# Altium integrated library INA240A1D.IntLib: 1 symbol
Pins are listed as number, name and electrical type; pins without a type are passive.

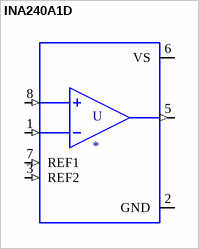
[diagram p0: symbol INA240A1D]

## INA240A1D
designator U
Current Sense Amplifier 1 Circuit 8-SOIC; MP: INA240A1D; MF: Texas Instruments; Package: SOIC-8 Texas Instruments; Price: None; Availability: Unavailable; Value: *; SnapEDA_Link: https://www.snapeda.com/parts/INA240A1D/Texas%20Instruments/view-part/2778825/?ref=snap
footprint SOIC127P600X175-8N
pins: 1 IN- (in), 2 GND (power), 3 REF2 (in), 5 OUT (out), 6 VS (power), 7 REF1 (in), 8 IN+ (in)